# Altium schematic symbol library STM32F072C8T6.SchLib: 1 symbol
Pins are listed as number, name and electrical type; pins without a type are passive.

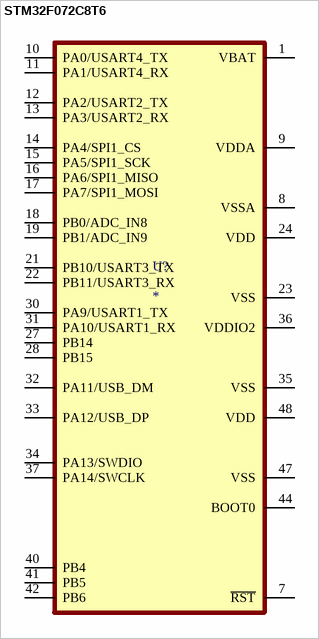
[diagram p0: symbol STM32F072C8T6]

## STM32F072C8T6
designator U?
footprint STM32F072C8T6
pins: 1 VBAT, 7 ~{RST}, 8 VSSA, 9 VDDA, 10 PA0/USART4_TX, 11 PA1/USART4_RX, 12 PA2/USART2_TX, 13 PA3/USART2_RX, 14 PA4/SPI1_CS, 15 PA5/SPI1_SCK, 16 PA6/SPI1_MISO, 17 PA7/SPI1_MOSI, 18 PB0/ADC_IN8, 19 PB1/ADC_IN9, 21 PB10/USART3_TX, 22 PB11/USART3_RX, 23 VSS, 24 VDD, 27 PB14, 28 PB15, 30 PA9/USART1_TX, 31 PA10/USART1_RX, 32 PA11/USB_DM, 33 PA12/USB_DP, 34 PA13/SWDIO, 35 VSS, 36 VDDIO2, 37 PA14/SWCLK, 40 PB4, 41 PB5, 42 PB6, 44 BOOT0, 47 VSS, 48 VDD